# Altium integrated library Vishay Roederstein Electrolytic Solder Ring Capacitor.IntLib: 99 symbols (part 1 of 2)
Pins are listed as number, name and electrical type; pins without a type are passive.

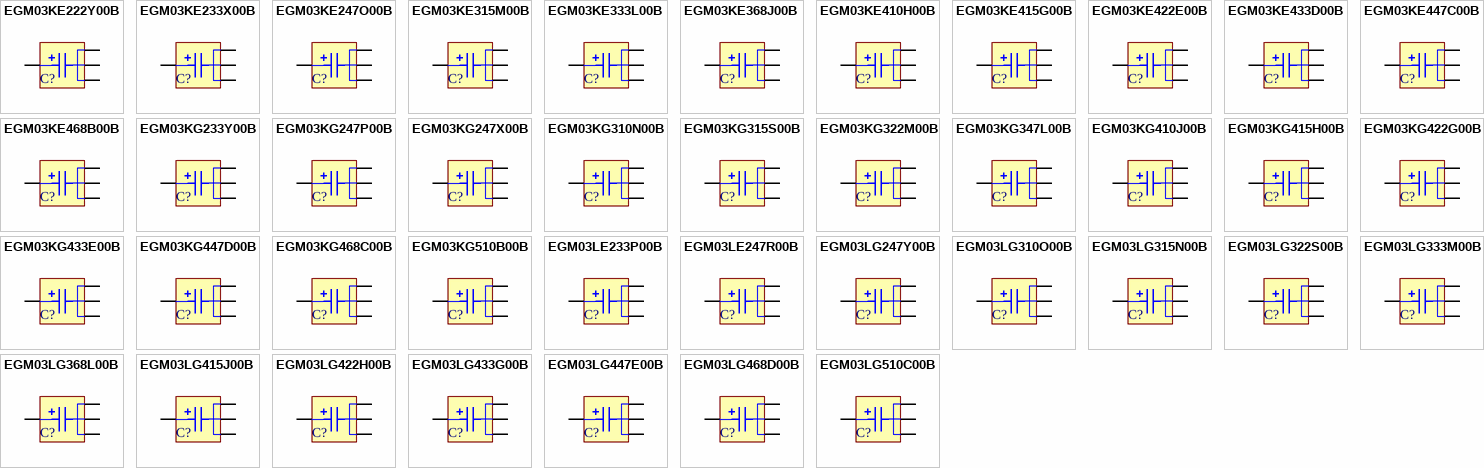
[diagram p0: symbols EGM03KE222Y00B to EGM03LG510C00B]

## EGM03KE222Y00B
designator C?
Aluminum Electrolytic Capacitor, Solder Ring Termination : 22uF, 500V; PCB_Layout: Complies with Manufacturer's Recommendation.; DrillSize: Nominal, Rounded To The Nearest 0.1mm; Published: 19-Mar-2004; DatasheetDocument: 8-Apr-2002; PackageReference: CAPPRM8.25-16X30-4; Publisher: Altium Limited; ComponentLink1Description: Manufacturer Link; ComponentLink1URL: http://www.vishay.com/; ComponentLink2Description: Datasheet; ComponentLink2URL: http://www.vishay.com/docs/25140/elebegm.pdf
footprint CAPPRM8.25-16X30-4 (Capacitor, Electrolytic, Radial, Solder Ring; Body 16 x 30 mm (Dia.xH typ); Pin Spacing 8.25 mm (typ))
simulation model CAP (Capacitor)
pins: 1, 2, 3, 4

## EGM03KE233X00B
designator C?
Aluminum Electrolytic Capacitor, Solder Ring Termination : 33uF, 400V; PCB_Layout: Complies with Manufacturer's Recommendation.; DrillSize: Nominal, Rounded To The Nearest 0.1mm; Published: 19-Mar-2004; DatasheetDocument: 8-Apr-2002; PackageReference: CAPPRM8.25-16X30-4; Publisher: Altium Limited; ComponentLink1Description: Manufacturer Link; ComponentLink1URL: http://www.vishay.com/; ComponentLink2Description: Datasheet; ComponentLink2URL: http://www.vishay.com/docs/25140/elebegm.pdf
footprint CAPPRM8.25-16X30-4 (Capacitor, Electrolytic, Radial, Solder Ring; Body 16 x 30 mm (Dia.xH typ); Pin Spacing 8.25 mm (typ))
simulation model CAP (Capacitor)
pins: 1, 2, 3, 4

## EGM03KE247O00B
designator C?
Aluminum Electrolytic Capacitor, Solder Ring Termination : 47uF, 350V; PCB_Layout: Complies with Manufacturer's Recommendation.; DrillSize: Nominal, Rounded To The Nearest 0.1mm; Published: 19-Mar-2004; DatasheetDocument: 8-Apr-2002; PackageReference: CAPPRM8.25-16X30-4; Publisher: Altium Limited; ComponentLink1Description: Manufacturer Link; ComponentLink1URL: http://www.vishay.com/; ComponentLink2Description: Datasheet; ComponentLink2URL: http://www.vishay.com/docs/25140/elebegm.pdf
footprint CAPPRM8.25-16X30-4 (Capacitor, Electrolytic, Radial, Solder Ring; Body 16 x 30 mm (Dia.xH typ); Pin Spacing 8.25 mm (typ))
simulation model CAP (Capacitor)
pins: 1, 2, 3, 4

## EGM03KE315M00B
designator C?
Aluminum Electrolytic Capacitor, Solder Ring Termination : 150uF, 160V; PCB_Layout: Complies with Manufacturer's Recommendation.; DrillSize: Nominal, Rounded To The Nearest 0.1mm; Published: 19-Mar-2004; DatasheetDocument: 8-Apr-2002; PackageReference: CAPPRM8.25-16X30-4; Publisher: Altium Limited; ComponentLink1Description: Manufacturer Link; ComponentLink1URL: http://www.vishay.com/; ComponentLink2Description: Datasheet; ComponentLink2URL: http://www.vishay.com/docs/25140/elebegm.pdf
footprint CAPPRM8.25-16X30-4 (Capacitor, Electrolytic, Radial, Solder Ring; Body 16 x 30 mm (Dia.xH typ); Pin Spacing 8.25 mm (typ))
simulation model CAP (Capacitor)
pins: 1, 2, 3, 4

## EGM03KE333L00B
designator C?
Aluminum Electrolytic Capacitor, Solder Ring Termination : 330uF, 100V; PCB_Layout: Complies with Manufacturer's Recommendation.; DrillSize: Nominal, Rounded To The Nearest 0.1mm; Published: 19-Mar-2004; DatasheetDocument: 8-Apr-2002; PackageReference: CAPPRM8.25-16X30-4; Publisher: Altium Limited; ComponentLink1Description: Manufacturer Link; ComponentLink1URL: http://www.vishay.com/; ComponentLink2Description: Datasheet; ComponentLink2URL: http://www.vishay.com/docs/25140/elebegm.pdf
footprint CAPPRM8.25-16X30-4 (Capacitor, Electrolytic, Radial, Solder Ring; Body 16 x 30 mm (Dia.xH typ); Pin Spacing 8.25 mm (typ))
simulation model CAP (Capacitor)
pins: 1, 2, 3, 4

## EGM03KE368J00B
designator C?
Aluminum Electrolytic Capacitor, Solder Ring Termination : 680uF, 63V; PCB_Layout: Complies with Manufacturer's Recommendation.; DrillSize: Nominal, Rounded To The Nearest 0.1mm; Published: 19-Mar-2004; DatasheetDocument: 8-Apr-2002; PackageReference: CAPPRM8.25-16X30-4; Publisher: Altium Limited; ComponentLink1Description: Manufacturer Link; ComponentLink1URL: http://www.vishay.com/; ComponentLink2Description: Datasheet; ComponentLink2URL: http://www.vishay.com/docs/25140/elebegm.pdf
footprint CAPPRM8.25-16X30-4 (Capacitor, Electrolytic, Radial, Solder Ring; Body 16 x 30 mm (Dia.xH typ); Pin Spacing 8.25 mm (typ))
simulation model CAP (Capacitor)
pins: 1, 2, 3, 4

## EGM03KE410H00B
designator C?
Aluminum Electrolytic Capacitor, Solder Ring Termination : 1000uF, 50V; PCB_Layout: Complies with Manufacturer's Recommendation.; DrillSize: Nominal, Rounded To The Nearest 0.1mm; Published: 19-Mar-2004; DatasheetDocument: 8-Apr-2002; PackageReference: CAPPRM8.25-16X30-4; Publisher: Altium Limited; ComponentLink1Description: Manufacturer Link; ComponentLink1URL: http://www.vishay.com/; ComponentLink2Description: Datasheet; ComponentLink2URL: http://www.vishay.com/docs/25140/elebegm.pdf
footprint CAPPRM8.25-16X30-4 (Capacitor, Electrolytic, Radial, Solder Ring; Body 16 x 30 mm (Dia.xH typ); Pin Spacing 8.25 mm (typ))
simulation model CAP (Capacitor)
pins: 1, 2, 3, 4

## EGM03KE415G00B
designator C?
Aluminum Electrolytic Capacitor, Solder Ring Termination : 1500uF, 40V; PCB_Layout: Complies with Manufacturer's Recommendation.; DrillSize: Nominal, Rounded To The Nearest 0.1mm; Published: 19-Mar-2004; DatasheetDocument: 8-Apr-2002; PackageReference: CAPPRM8.25-16X30-4; Publisher: Altium Limited; ComponentLink1Description: Manufacturer Link; ComponentLink1URL: http://www.vishay.com/; ComponentLink2Description: Datasheet; ComponentLink2URL: http://www.vishay.com/docs/25140/elebegm.pdf
footprint CAPPRM8.25-16X30-4 (Capacitor, Electrolytic, Radial, Solder Ring; Body 16 x 30 mm (Dia.xH typ); Pin Spacing 8.25 mm (typ))
simulation model CAP (Capacitor)
pins: 1, 2, 3, 4

## EGM03KE422E00B
designator C?
Aluminum Electrolytic Capacitor, Solder Ring Termination : 2200uF, 25V; PCB_Layout: Complies with Manufacturer's Recommendation.; DrillSize: Nominal, Rounded To The Nearest 0.1mm; Published: 19-Mar-2004; DatasheetDocument: 8-Apr-2002; PackageReference: CAPPRM8.25-16X30-4; Publisher: Altium Limited; ComponentLink1Description: Manufacturer Link; ComponentLink1URL: http://www.vishay.com/; ComponentLink2Description: Datasheet; ComponentLink2URL: http://www.vishay.com/docs/25140/elebegm.pdf
footprint CAPPRM8.25-16X30-4 (Capacitor, Electrolytic, Radial, Solder Ring; Body 16 x 30 mm (Dia.xH typ); Pin Spacing 8.25 mm (typ))
simulation model CAP (Capacitor)
pins: 1, 2, 3, 4

## EGM03KE433D00B
designator C?
Aluminum Electrolytic Capacitor, Solder Ring Termination : 3300uF, 16V; PCB_Layout: Complies with Manufacturer's Recommendation.; DrillSize: Nominal, Rounded To The Nearest 0.1mm; Published: 19-Mar-2004; DatasheetDocument: 8-Apr-2002; PackageReference: CAPPRM8.25-16X30-4; Publisher: Altium Limited; ComponentLink1Description: Manufacturer Link; ComponentLink1URL: http://www.vishay.com/; ComponentLink2Description: Datasheet; ComponentLink2URL: http://www.vishay.com/docs/25140/elebegm.pdf
footprint CAPPRM8.25-16X30-4 (Capacitor, Electrolytic, Radial, Solder Ring; Body 16 x 30 mm (Dia.xH typ); Pin Spacing 8.25 mm (typ))
simulation model CAP (Capacitor)
pins: 1, 2, 3, 4

## EGM03KE447C00B
designator C?
Aluminum Electrolytic Capacitor, Solder Ring Termination : 4700uF, 10V; PCB_Layout: Complies with Manufacturer's Recommendation.; DrillSize: Nominal, Rounded To The Nearest 0.1mm; Published: 19-Mar-2004; DatasheetDocument: 8-Apr-2002; PackageReference: CAPPRM8.25-16X30-4; Publisher: Altium Limited; ComponentLink1Description: Manufacturer Link; ComponentLink1URL: http://www.vishay.com/; ComponentLink2Description: Datasheet; ComponentLink2URL: http://www.vishay.com/docs/25140/elebegm.pdf
footprint CAPPRM8.25-16X30-4 (Capacitor, Electrolytic, Radial, Solder Ring; Body 16 x 30 mm (Dia.xH typ); Pin Spacing 8.25 mm (typ))
simulation model CAP (Capacitor)
pins: 1, 2, 3, 4

## EGM03KE468B00B
designator C?
Aluminum Electrolytic Capacitor, Solder Ring Termination : 6800uF, 6.3V; PCB_Layout: Complies with Manufacturer's Recommendation.; DrillSize: Nominal, Rounded To The Nearest 0.1mm; Published: 19-Mar-2004; DatasheetDocument: 8-Apr-2002; PackageReference: CAPPRM8.25-16X30-4; Publisher: Altium Limited; ComponentLink1Description: Manufacturer Link; ComponentLink1URL: http://www.vishay.com/; ComponentLink2Description: Datasheet; ComponentLink2URL: http://www.vishay.com/docs/25140/elebegm.pdf
footprint CAPPRM8.25-16X30-4 (Capacitor, Electrolytic, Radial, Solder Ring; Body 16 x 30 mm (Dia.xH typ); Pin Spacing 8.25 mm (typ))
simulation model CAP (Capacitor)
pins: 1, 2, 3, 4

## EGM03KG233Y00B
designator C?
Aluminum Electrolytic Capacitor, Solder Ring Termination : 33uF, 500V; PCB_Layout: Complies with Manufacturer's Recommendation.; DrillSize: Nominal, Rounded To The Nearest 0.1mm; Published: 19-Mar-2004; DatasheetDocument: 8-Apr-2002; PackageReference: CAPPRM8.25-16X40-4; Publisher: Altium Limited; ComponentLink1Description: Manufacturer Link; ComponentLink1URL: http://www.vishay.com/; ComponentLink2Description: Datasheet; ComponentLink2URL: http://www.vishay.com/docs/25140/elebegm.pdf
footprint CAPPRM8.25-16X40-4 (Capacitor, Electrolytic, Radial, Solder Ring; Body 16 x 40 mm (Dia.xH typ); Pin Spacing 8.25 mm (typ))
simulation model CAP (Capacitor)
pins: 1, 2, 3, 4

## EGM03KG247P00B
designator C?
Aluminum Electrolytic Capacitor, Solder Ring Termination : 47uF, 450V; PCB_Layout: Complies with Manufacturer's Recommendation.; DrillSize: Nominal, Rounded To The Nearest 0.1mm; Published: 19-Mar-2004; DatasheetDocument: 8-Apr-2002; PackageReference: CAPPRM8.25-16X40-4; Publisher: Altium Limited; ComponentLink1Description: Manufacturer Link; ComponentLink1URL: http://www.vishay.com/; ComponentLink2Description: Datasheet; ComponentLink2URL: http://www.vishay.com/docs/25140/elebegm.pdf
footprint CAPPRM8.25-16X40-4 (Capacitor, Electrolytic, Radial, Solder Ring; Body 16 x 40 mm (Dia.xH typ); Pin Spacing 8.25 mm (typ))
simulation model CAP (Capacitor)
pins: 1, 2, 3, 4

## EGM03KG247X00B
designator C?
Aluminum Electrolytic Capacitor, Solder Ring Termination : 47uF, 400V; PCB_Layout: Complies with Manufacturer's Recommendation.; DrillSize: Nominal, Rounded To The Nearest 0.1mm; Published: 19-Mar-2004; DatasheetDocument: 8-Apr-2002; PackageReference: CAPPRM8.25-16X40-4; Publisher: Altium Limited; ComponentLink1Description: Manufacturer Link; ComponentLink1URL: http://www.vishay.com/; ComponentLink2Description: Datasheet; ComponentLink2URL: http://www.vishay.com/docs/25140/elebegm.pdf
footprint CAPPRM8.25-16X40-4 (Capacitor, Electrolytic, Radial, Solder Ring; Body 16 x 40 mm (Dia.xH typ); Pin Spacing 8.25 mm (typ))
simulation model CAP (Capacitor)
pins: 1, 2, 3, 4

## EGM03KG310N00B
designator C?
Aluminum Electrolytic Capacitor, Solder Ring Termination : 100uF, 250V; PCB_Layout: Complies with Manufacturer's Recommendation.; DrillSize: Nominal, Rounded To The Nearest 0.1mm; Published: 19-Mar-2004; DatasheetDocument: 8-Apr-2002; PackageReference: CAPPRM8.25-16X40-4; Publisher: Altium Limited; ComponentLink1Description: Manufacturer Link; ComponentLink1URL: http://www.vishay.com/; ComponentLink2Description: Datasheet; ComponentLink2URL: http://www.vishay.com/docs/25140/elebegm.pdf
footprint CAPPRM8.25-16X40-4 (Capacitor, Electrolytic, Radial, Solder Ring; Body 16 x 40 mm (Dia.xH typ); Pin Spacing 8.25 mm (typ))
simulation model CAP (Capacitor)
pins: 1, 2, 3, 4

## EGM03KG315S00B
designator C?
Aluminum Electrolytic Capacitor, Solder Ring Termination : 150uF, 200V; PCB_Layout: Complies with Manufacturer's Recommendation.; DrillSize: Nominal, Rounded To The Nearest 0.1mm; Published: 19-Mar-2004; DatasheetDocument: 8-Apr-2002; PackageReference: CAPPRM8.25-16X40-4; Publisher: Altium Limited; ComponentLink1Description: Manufacturer Link; ComponentLink1URL: http://www.vishay.com/; ComponentLink2Description: Datasheet; ComponentLink2URL: http://www.vishay.com/docs/25140/elebegm.pdf
footprint CAPPRM8.25-16X40-4 (Capacitor, Electrolytic, Radial, Solder Ring; Body 16 x 40 mm (Dia.xH typ); Pin Spacing 8.25 mm (typ))
simulation model CAP (Capacitor)
pins: 1, 2, 3, 4

## EGM03KG322M00B
designator C?
Aluminum Electrolytic Capacitor, Solder Ring Termination : 220uF, 160V; PCB_Layout: Complies with Manufacturer's Recommendation.; DrillSize: Nominal, Rounded To The Nearest 0.1mm; Published: 19-Mar-2004; DatasheetDocument: 8-Apr-2002; PackageReference: CAPPRM8.25-16X40-4; Publisher: Altium Limited; ComponentLink1Description: Manufacturer Link; ComponentLink1URL: http://www.vishay.com/; ComponentLink2Description: Datasheet; ComponentLink2URL: http://www.vishay.com/docs/25140/elebegm.pdf
footprint CAPPRM8.25-16X40-4 (Capacitor, Electrolytic, Radial, Solder Ring; Body 16 x 40 mm (Dia.xH typ); Pin Spacing 8.25 mm (typ))
simulation model CAP (Capacitor)
pins: 1, 2, 3, 4

## EGM03KG347L00B
designator C?
Aluminum Electrolytic Capacitor, Solder Ring Termination : 470uF, 100V; PCB_Layout: Complies with Manufacturer's Recommendation.; DrillSize: Nominal, Rounded To The Nearest 0.1mm; Published: 19-Mar-2004; DatasheetDocument: 8-Apr-2002; PackageReference: CAPPRM8.25-16X40-4; Publisher: Altium Limited; ComponentLink1Description: Manufacturer Link; ComponentLink1URL: http://www.vishay.com/; ComponentLink2Description: Datasheet; ComponentLink2URL: http://www.vishay.com/docs/25140/elebegm.pdf
footprint CAPPRM8.25-16X40-4 (Capacitor, Electrolytic, Radial, Solder Ring; Body 16 x 40 mm (Dia.xH typ); Pin Spacing 8.25 mm (typ))
simulation model CAP (Capacitor)
pins: 1, 2, 3, 4

## EGM03KG410J00B
designator C?
Aluminum Electrolytic Capacitor, Solder Ring Termination : 1000uF, 63V; PCB_Layout: Complies with Manufacturer's Recommendation.; DrillSize: Nominal, Rounded To The Nearest 0.1mm; Published: 19-Mar-2004; DatasheetDocument: 8-Apr-2002; PackageReference: CAPPRM8.25-16X40-4; Publisher: Altium Limited; ComponentLink1Description: Manufacturer Link; ComponentLink1URL: http://www.vishay.com/; ComponentLink2Description: Datasheet; ComponentLink2URL: http://www.vishay.com/docs/25140/elebegm.pdf
footprint CAPPRM8.25-16X40-4 (Capacitor, Electrolytic, Radial, Solder Ring; Body 16 x 40 mm (Dia.xH typ); Pin Spacing 8.25 mm (typ))
simulation model CAP (Capacitor)
pins: 1, 2, 3, 4

## EGM03KG415H00B
designator C?
Aluminum Electrolytic Capacitor, Solder Ring Termination : 1500uF, 50V; PCB_Layout: Complies with Manufacturer's Recommendation.; DrillSize: Nominal, Rounded To The Nearest 0.1mm; Published: 19-Mar-2004; DatasheetDocument: 8-Apr-2002; PackageReference: CAPPRM8.25-16X40-4; Publisher: Altium Limited; ComponentLink1Description: Manufacturer Link; ComponentLink1URL: http://www.vishay.com/; ComponentLink2Description: Datasheet; ComponentLink2URL: http://www.vishay.com/docs/25140/elebegm.pdf
footprint CAPPRM8.25-16X40-4 (Capacitor, Electrolytic, Radial, Solder Ring; Body 16 x 40 mm (Dia.xH typ); Pin Spacing 8.25 mm (typ))
simulation model CAP (Capacitor)
pins: 1, 2, 3, 4

## EGM03KG422G00B
designator C?
Aluminum Electrolytic Capacitor, Solder Ring Termination : 2200uF, 40V; PCB_Layout: Complies with Manufacturer's Recommendation.; DrillSize: Nominal, Rounded To The Nearest 0.1mm; Published: 19-Mar-2004; DatasheetDocument: 8-Apr-2002; PackageReference: CAPPRM8.25-16X40-4; Publisher: Altium Limited; ComponentLink1Description: Manufacturer Link; ComponentLink1URL: http://www.vishay.com/; ComponentLink2Description: Datasheet; ComponentLink2URL: http://www.vishay.com/docs/25140/elebegm.pdf
footprint CAPPRM8.25-16X40-4 (Capacitor, Electrolytic, Radial, Solder Ring; Body 16 x 40 mm (Dia.xH typ); Pin Spacing 8.25 mm (typ))
simulation model CAP (Capacitor)
pins: 1, 2, 3, 4

## EGM03KG433E00B
designator C?
Aluminum Electrolytic Capacitor, Solder Ring Termination : 3300uF, 25V; PCB_Layout: Complies with Manufacturer's Recommendation.; DrillSize: Nominal, Rounded To The Nearest 0.1mm; Published: 19-Mar-2004; DatasheetDocument: 8-Apr-2002; PackageReference: CAPPRM8.25-16X40-4; Publisher: Altium Limited; ComponentLink1Description: Manufacturer Link; ComponentLink1URL: http://www.vishay.com/; ComponentLink2Description: Datasheet; ComponentLink2URL: http://www.vishay.com/docs/25140/elebegm.pdf
footprint CAPPRM8.25-16X40-4 (Capacitor, Electrolytic, Radial, Solder Ring; Body 16 x 40 mm (Dia.xH typ); Pin Spacing 8.25 mm (typ))
simulation model CAP (Capacitor)
pins: 1, 2, 3, 4

## EGM03KG447D00B
designator C?
Aluminum Electrolytic Capacitor, Solder Ring Termination : 4700uF, 16V; PCB_Layout: Complies with Manufacturer's Recommendation.; DrillSize: Nominal, Rounded To The Nearest 0.1mm; Published: 19-Mar-2004; DatasheetDocument: 8-Apr-2002; PackageReference: CAPPRM8.25-16X40-4; Publisher: Altium Limited; ComponentLink1Description: Manufacturer Link; ComponentLink1URL: http://www.vishay.com/; ComponentLink2Description: Datasheet; ComponentLink2URL: http://www.vishay.com/docs/25140/elebegm.pdf
footprint CAPPRM8.25-16X40-4 (Capacitor, Electrolytic, Radial, Solder Ring; Body 16 x 40 mm (Dia.xH typ); Pin Spacing 8.25 mm (typ))
simulation model CAP (Capacitor)
pins: 1, 2, 3, 4

## EGM03KG468C00B
designator C?
Aluminum Electrolytic Capacitor, Solder Ring Termination : 6800uF, 10V; PCB_Layout: Complies with Manufacturer's Recommendation.; DrillSize: Nominal, Rounded To The Nearest 0.1mm; Published: 19-Mar-2004; DatasheetDocument: 8-Apr-2002; PackageReference: CAPPRM8.25-16X40-4; Publisher: Altium Limited; ComponentLink1Description: Manufacturer Link; ComponentLink1URL: http://www.vishay.com/; ComponentLink2Description: Datasheet; ComponentLink2URL: http://www.vishay.com/docs/25140/elebegm.pdf
footprint CAPPRM8.25-16X40-4 (Capacitor, Electrolytic, Radial, Solder Ring; Body 16 x 40 mm (Dia.xH typ); Pin Spacing 8.25 mm (typ))
simulation model CAP (Capacitor)
pins: 1, 2, 3, 4

## EGM03KG510B00B
designator C?
Aluminum Electrolytic Capacitor, Solder Ring Termination : 10000uF, 6.3V; PCB_Layout: Complies with Manufacturer's Recommendation.; DrillSize: Nominal, Rounded To The Nearest 0.1mm; Published: 19-Mar-2004; DatasheetDocument: 8-Apr-2002; PackageReference: CAPPRM8.25-16X40-4; Publisher: Altium Limited; ComponentLink1Description: Manufacturer Link; ComponentLink1URL: http://www.vishay.com/; ComponentLink2Description: Datasheet; ComponentLink2URL: http://www.vishay.com/docs/25140/elebegm.pdf
footprint CAPPRM8.25-16X40-4 (Capacitor, Electrolytic, Radial, Solder Ring; Body 16 x 40 mm (Dia.xH typ); Pin Spacing 8.25 mm (typ))
simulation model CAP (Capacitor)
pins: 1, 2, 3, 4

## EGM03LE233P00B
designator C?
Aluminum Electrolytic Capacitor, Solder Ring Termination : 33uF, 450V; PCB_Layout: Complies with Manufacturer's Recommendation.; DrillSize: Nominal, Rounded To The Nearest 0.1mm; Published: 19-Mar-2004; DatasheetDocument: 8-Apr-2002; PackageReference: CAPPRM9.25-18X30-4; Publisher: Altium Limited; ComponentLink1Description: Manufacturer Link; ComponentLink1URL: http://www.vishay.com/; ComponentLink2Description: Datasheet; ComponentLink2URL: http://www.vishay.com/docs/25140/elebegm.pdf
footprint CAPPRM9.25-18X30-4 (Capacitor, Electrolytic, Radial, Solder Ring; Body 18 x 30 mm (Dia.xH typ); Pin Spacing 9.25 mm (typ))
simulation model CAP (Capacitor)
pins: 1, 2, 3, 4

## EGM03LE247R00B
designator C?
Aluminum Electrolytic Capacitor, Solder Ring Termination : 47uF, 385V; PCB_Layout: Complies with Manufacturer's Recommendation.; DrillSize: Nominal, Rounded To The Nearest 0.1mm; Published: 19-Mar-2004; DatasheetDocument: 8-Apr-2002; PackageReference: CAPPRM9.25-18X30-4; Publisher: Altium Limited; ComponentLink1Description: Manufacturer Link; ComponentLink1URL: http://www.vishay.com/; ComponentLink2Description: Datasheet; ComponentLink2URL: http://www.vishay.com/docs/25140/elebegm.pdf
footprint CAPPRM9.25-18X30-4 (Capacitor, Electrolytic, Radial, Solder Ring; Body 18 x 30 mm (Dia.xH typ); Pin Spacing 9.25 mm (typ))
simulation model CAP (Capacitor)
pins: 1, 2, 3, 4

## EGM03LG247Y00B
designator C?
Aluminum Electrolytic Capacitor, Solder Ring Termination : 47uF, 500V; PCB_Layout: Complies with Manufacturer's Recommendation.; DrillSize: Nominal, Rounded To The Nearest 0.1mm; Published: 19-Mar-2004; DatasheetDocument: 8-Apr-2002; PackageReference: CAPPRM9.25-18X40-4; Publisher: Altium Limited; ComponentLink1Description: Manufacturer Link; ComponentLink1URL: http://www.vishay.com/; ComponentLink2Description: Datasheet; ComponentLink2URL: http://www.vishay.com/docs/25140/elebegm.pdf
footprint CAPPRM9.25-18X40-4 (Capacitor, Electrolytic, Radial, Solder Ring; Body 18 x 40 mm (Dia.xH typ); Pin Spacing 9.25 mm (typ))
simulation model CAP (Capacitor)
pins: 1, 2, 3, 4

## EGM03LG310O00B
designator C?
Aluminum Electrolytic Capacitor, Solder Ring Termination : 100uF, 350V; PCB_Layout: Complies with Manufacturer's Recommendation.; DrillSize: Nominal, Rounded To The Nearest 0.1mm; Published: 19-Mar-2004; DatasheetDocument: 8-Apr-2002; PackageReference: CAPPRM9.25-18X40-4; Publisher: Altium Limited; ComponentLink1Description: Manufacturer Link; ComponentLink1URL: http://www.vishay.com/; ComponentLink2Description: Datasheet; ComponentLink2URL: http://www.vishay.com/docs/25140/elebegm.pdf
footprint CAPPRM9.25-18X40-4 (Capacitor, Electrolytic, Radial, Solder Ring; Body 18 x 40 mm (Dia.xH typ); Pin Spacing 9.25 mm (typ))
simulation model CAP (Capacitor)
pins: 1, 2, 3, 4

## EGM03LG315N00B
designator C?
Aluminum Electrolytic Capacitor, Solder Ring Termination : 150uF, 250V; PCB_Layout: Complies with Manufacturer's Recommendation.; DrillSize: Nominal, Rounded To The Nearest 0.1mm; Published: 19-Mar-2004; DatasheetDocument: 8-Apr-2002; PackageReference: CAPPRM9.25-18X40-4; Publisher: Altium Limited; ComponentLink1Description: Manufacturer Link; ComponentLink1URL: http://www.vishay.com/; ComponentLink2Description: Datasheet; ComponentLink2URL: http://www.vishay.com/docs/25140/elebegm.pdf
footprint CAPPRM9.25-18X40-4 (Capacitor, Electrolytic, Radial, Solder Ring; Body 18 x 40 mm (Dia.xH typ); Pin Spacing 9.25 mm (typ))
simulation model CAP (Capacitor)
pins: 1, 2, 3, 4

## EGM03LG322S00B
designator C?
Aluminum Electrolytic Capacitor, Solder Ring Termination : 220uF, 200V; PCB_Layout: Complies with Manufacturer's Recommendation.; DrillSize: Nominal, Rounded To The Nearest 0.1mm; Published: 19-Mar-2004; DatasheetDocument: 8-Apr-2002; PackageReference: CAPPRM9.25-18X40-4; Publisher: Altium Limited; ComponentLink1Description: Manufacturer Link; ComponentLink1URL: http://www.vishay.com/; ComponentLink2Description: Datasheet; ComponentLink2URL: http://www.vishay.com/docs/25140/elebegm.pdf
footprint CAPPRM9.25-18X40-4 (Capacitor, Electrolytic, Radial, Solder Ring; Body 18 x 40 mm (Dia.xH typ); Pin Spacing 9.25 mm (typ))
simulation model CAP (Capacitor)
pins: 1, 2, 3, 4

## EGM03LG333M00B
designator C?
Aluminum Electrolytic Capacitor, Solder Ring Termination : 330uF, 160V; PCB_Layout: Complies with Manufacturer's Recommendation.; DrillSize: Nominal, Rounded To The Nearest 0.1mm; Published: 19-Mar-2004; DatasheetDocument: 8-Apr-2002; PackageReference: CAPPRM9.25-18X40-4; Publisher: Altium Limited; ComponentLink1Description: Manufacturer Link; ComponentLink1URL: http://www.vishay.com/; ComponentLink2Description: Datasheet; ComponentLink2URL: http://www.vishay.com/docs/25140/elebegm.pdf
footprint CAPPRM9.25-18X40-4 (Capacitor, Electrolytic, Radial, Solder Ring; Body 18 x 40 mm (Dia.xH typ); Pin Spacing 9.25 mm (typ))
simulation model CAP (Capacitor)
pins: 1, 2, 3, 4

## EGM03LG368L00B
designator C?
Aluminum Electrolytic Capacitor, Solder Ring Termination : 680uF, 100V; PCB_Layout: Complies with Manufacturer's Recommendation.; DrillSize: Nominal, Rounded To The Nearest 0.1mm; Published: 19-Mar-2004; DatasheetDocument: 8-Apr-2002; PackageReference: CAPPRM9.25-18X40-4; Publisher: Altium Limited; ComponentLink1Description: Manufacturer Link; ComponentLink1URL: http://www.vishay.com/; ComponentLink2Description: Datasheet; ComponentLink2URL: http://www.vishay.com/docs/25140/elebegm.pdf
footprint CAPPRM9.25-18X40-4 (Capacitor, Electrolytic, Radial, Solder Ring; Body 18 x 40 mm (Dia.xH typ); Pin Spacing 9.25 mm (typ))
simulation model CAP (Capacitor)
pins: 1, 2, 3, 4

## EGM03LG415J00B
designator C?
Aluminum Electrolytic Capacitor, Solder Ring Termination : 1500uF, 63V; PCB_Layout: Complies with Manufacturer's Recommendation.; DrillSize: Nominal, Rounded To The Nearest 0.1mm; Published: 19-Mar-2004; DatasheetDocument: 8-Apr-2002; PackageReference: CAPPRM9.25-18X40-4; Publisher: Altium Limited; ComponentLink1Description: Manufacturer Link; ComponentLink1URL: http://www.vishay.com/; ComponentLink2Description: Datasheet; ComponentLink2URL: http://www.vishay.com/docs/25140/elebegm.pdf
footprint CAPPRM9.25-18X40-4 (Capacitor, Electrolytic, Radial, Solder Ring; Body 18 x 40 mm (Dia.xH typ); Pin Spacing 9.25 mm (typ))
simulation model CAP (Capacitor)
pins: 1, 2, 3, 4

## EGM03LG422H00B
designator C?
Aluminum Electrolytic Capacitor, Solder Ring Termination : 2200uF, 50V; PCB_Layout: Complies with Manufacturer's Recommendation.; DrillSize: Nominal, Rounded To The Nearest 0.1mm; Published: 19-Mar-2004; DatasheetDocument: 8-Apr-2002; PackageReference: CAPPRM9.25-18X40-4; Publisher: Altium Limited; ComponentLink1Description: Manufacturer Link; ComponentLink1URL: http://www.vishay.com/; ComponentLink2Description: Datasheet; ComponentLink2URL: http://www.vishay.com/docs/25140/elebegm.pdf
footprint CAPPRM9.25-18X40-4 (Capacitor, Electrolytic, Radial, Solder Ring; Body 18 x 40 mm (Dia.xH typ); Pin Spacing 9.25 mm (typ))
simulation model CAP (Capacitor)
pins: 1, 2, 3, 4

## EGM03LG433G00B
designator C?
Aluminum Electrolytic Capacitor, Solder Ring Termination : 3300uF, 40V; PCB_Layout: Complies with Manufacturer's Recommendation.; DrillSize: Nominal, Rounded To The Nearest 0.1mm; Published: 19-Mar-2004; DatasheetDocument: 8-Apr-2002; PackageReference: CAPPRM9.25-18X40-4; Publisher: Altium Limited; ComponentLink1Description: Manufacturer Link; ComponentLink1URL: http://www.vishay.com/; ComponentLink2Description: Datasheet; ComponentLink2URL: http://www.vishay.com/docs/25140/elebegm.pdf
footprint CAPPRM9.25-18X40-4 (Capacitor, Electrolytic, Radial, Solder Ring; Body 18 x 40 mm (Dia.xH typ); Pin Spacing 9.25 mm (typ))
simulation model CAP (Capacitor)
pins: 1, 2, 3, 4

## EGM03LG447E00B
designator C?
Aluminum Electrolytic Capacitor, Solder Ring Termination : 4700uF, 25V; PCB_Layout: Complies with Manufacturer's Recommendation.; DrillSize: Nominal, Rounded To The Nearest 0.1mm; Published: 19-Mar-2004; DatasheetDocument: 8-Apr-2002; PackageReference: CAPPRM9.25-18X40-4; Publisher: Altium Limited; ComponentLink1Description: Manufacturer Link; ComponentLink1URL: http://www.vishay.com/; ComponentLink2Description: Datasheet; ComponentLink2URL: http://www.vishay.com/docs/25140/elebegm.pdf
footprint CAPPRM9.25-18X40-4 (Capacitor, Electrolytic, Radial, Solder Ring; Body 18 x 40 mm (Dia.xH typ); Pin Spacing 9.25 mm (typ))
simulation model CAP (Capacitor)
pins: 1, 2, 3, 4

## EGM03LG468D00B
designator C?
Aluminum Electrolytic Capacitor, Solder Ring Termination : 6800uF, 16V; PCB_Layout: Complies with Manufacturer's Recommendation.; DrillSize: Nominal, Rounded To The Nearest 0.1mm; Published: 19-Mar-2004; DatasheetDocument: 8-Apr-2002; PackageReference: CAPPRM9.25-18X40-4; Publisher: Altium Limited; ComponentLink1Description: Manufacturer Link; ComponentLink1URL: http://www.vishay.com/; ComponentLink2Description: Datasheet; ComponentLink2URL: http://www.vishay.com/docs/25140/elebegm.pdf
footprint CAPPRM9.25-18X40-4 (Capacitor, Electrolytic, Radial, Solder Ring; Body 18 x 40 mm (Dia.xH typ); Pin Spacing 9.25 mm (typ))
simulation model CAP (Capacitor)
pins: 1, 2, 3, 4

## EGM03LG510C00B
designator C?
Aluminum Electrolytic Capacitor, Solder Ring Termination : 10000uF, 10V; PCB_Layout: Complies with Manufacturer's Recommendation.; DrillSize: Nominal, Rounded To The Nearest 0.1mm; Published: 19-Mar-2004; DatasheetDocument: 8-Apr-2002; PackageReference: CAPPRM9.25-18X40-4; Publisher: Altium Limited; ComponentLink1Description: Manufacturer Link; ComponentLink1URL: http://www.vishay.com/; ComponentLink2Description: Datasheet; ComponentLink2URL: http://www.vishay.com/docs/25140/elebegm.pdf
footprint CAPPRM9.25-18X40-4 (Capacitor, Electrolytic, Radial, Solder Ring; Body 18 x 40 mm (Dia.xH typ); Pin Spacing 9.25 mm (typ))
simulation model CAP (Capacitor)
pins: 1, 2, 3, 4

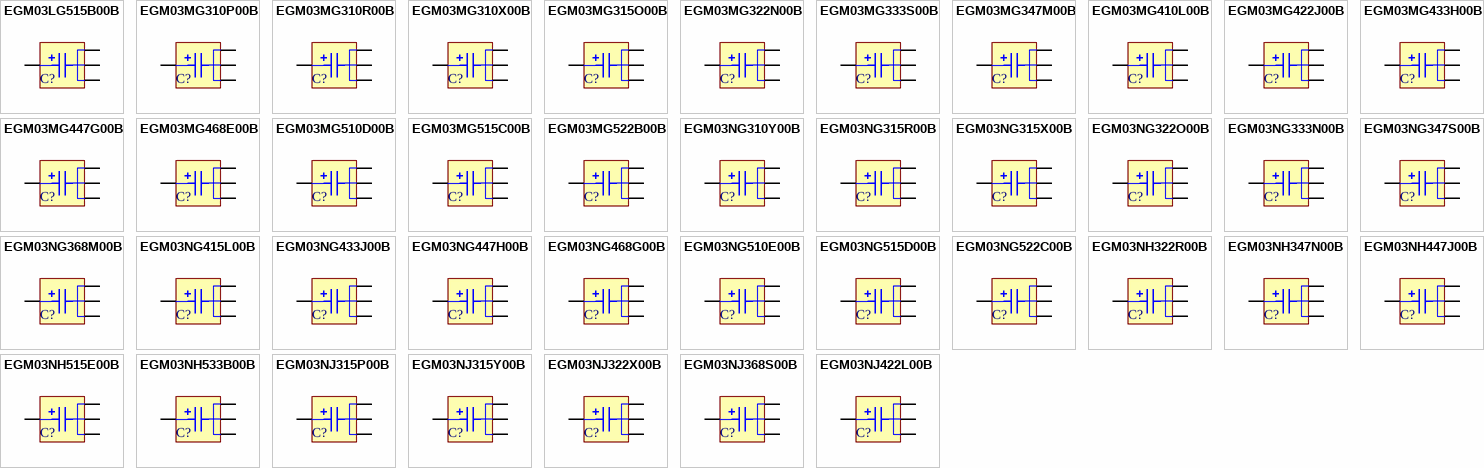
[diagram p1: symbols EGM03LG515B00B to EGM03NJ422L00B]

## EGM03LG515B00B
designator C?
Aluminum Electrolytic Capacitor, Solder Ring Termination : 15000uF, 6.3V; PCB_Layout: Complies with Manufacturer's Recommendation.; DrillSize: Nominal, Rounded To The Nearest 0.1mm; Published: 19-Mar-2004; DatasheetDocument: 8-Apr-2002; PackageReference: CAPPRM9.25-18X40-4; Publisher: Altium Limited; ComponentLink1Description: Manufacturer Link; ComponentLink1URL: http://www.vishay.com/; ComponentLink2Description: Datasheet; ComponentLink2URL: http://www.vishay.com/docs/25140/elebegm.pdf
footprint CAPPRM9.25-18X40-4 (Capacitor, Electrolytic, Radial, Solder Ring; Body 18 x 40 mm (Dia.xH typ); Pin Spacing 9.25 mm (typ))
simulation model CAP (Capacitor)
pins: 1, 2, 3, 4

## EGM03MG310P00B
designator C?
Aluminum Electrolytic Capacitor, Solder Ring Termination : 100uF, 450V; PCB_Layout: Complies with Manufacturer's Recommendation.; DrillSize: Nominal, Rounded To The Nearest 0.1mm; Published: 19-Mar-2004; DatasheetDocument: 8-Apr-2002; PackageReference: CAPPRM10.75-21X40-4; Publisher: Altium Limited; ComponentLink1Description: Manufacturer Link; ComponentLink1URL: http://www.vishay.com/; ComponentLink2Description: Datasheet; ComponentLink2URL: http://www.vishay.com/docs/25140/elebegm.pdf
footprint CAPPRM10.75-21X40-4 (Capacitor, Electrolytic, Radial, Solder Ring; Body 21 x 40 mm (Dia.xH typ); Pin Spacing 10.75 mm (typ))
simulation model CAP (Capacitor)
pins: 1, 2, 3, 4

## EGM03MG310R00B
designator C?
Aluminum Electrolytic Capacitor, Solder Ring Termination : 100uF, 385V; PCB_Layout: Complies with Manufacturer's Recommendation.; DrillSize: Nominal, Rounded To The Nearest 0.1mm; Published: 19-Mar-2004; DatasheetDocument: 8-Apr-2002; PackageReference: CAPPRM10.75-21X40-4; Publisher: Altium Limited; ComponentLink1Description: Manufacturer Link; ComponentLink1URL: http://www.vishay.com/; ComponentLink2Description: Datasheet; ComponentLink2URL: http://www.vishay.com/docs/25140/elebegm.pdf
footprint CAPPRM10.75-21X40-4 (Capacitor, Electrolytic, Radial, Solder Ring; Body 21 x 40 mm (Dia.xH typ); Pin Spacing 10.75 mm (typ))
simulation model CAP (Capacitor)
pins: 1, 2, 3, 4

## EGM03MG310X00B
designator C?
Aluminum Electrolytic Capacitor, Solder Ring Termination : 100uF, 400V; PCB_Layout: Complies with Manufacturer's Recommendation.; DrillSize: Nominal, Rounded To The Nearest 0.1mm; Published: 19-Mar-2004; DatasheetDocument: 8-Apr-2002; PackageReference: CAPPRM10.75-21X40-4; Publisher: Altium Limited; ComponentLink1Description: Manufacturer Link; ComponentLink1URL: http://www.vishay.com/; ComponentLink2Description: Datasheet; ComponentLink2URL: http://www.vishay.com/docs/25140/elebegm.pdf
footprint CAPPRM10.75-21X40-4 (Capacitor, Electrolytic, Radial, Solder Ring; Body 21 x 40 mm (Dia.xH typ); Pin Spacing 10.75 mm (typ))
simulation model CAP (Capacitor)
pins: 1, 2, 3, 4

## EGM03MG315O00B
designator C?
Aluminum Electrolytic Capacitor, Solder Ring Termination : 150uF, 350V; PCB_Layout: Complies with Manufacturer's Recommendation.; DrillSize: Nominal, Rounded To The Nearest 0.1mm; Published: 19-Mar-2004; DatasheetDocument: 8-Apr-2002; PackageReference: CAPPRM10.75-21X40-4; Publisher: Altium Limited; ComponentLink1Description: Manufacturer Link; ComponentLink1URL: http://www.vishay.com/; ComponentLink2Description: Datasheet; ComponentLink2URL: http://www.vishay.com/docs/25140/elebegm.pdf
footprint CAPPRM10.75-21X40-4 (Capacitor, Electrolytic, Radial, Solder Ring; Body 21 x 40 mm (Dia.xH typ); Pin Spacing 10.75 mm (typ))
simulation model CAP (Capacitor)
pins: 1, 2, 3, 4

## EGM03MG322N00B
designator C?
Aluminum Electrolytic Capacitor, Solder Ring Termination : 220uF, 250V; PCB_Layout: Complies with Manufacturer's Recommendation.; DrillSize: Nominal, Rounded To The Nearest 0.1mm; Published: 19-Mar-2004; DatasheetDocument: 8-Apr-2002; PackageReference: CAPPRM10.75-21X40-4; Publisher: Altium Limited; ComponentLink1Description: Manufacturer Link; ComponentLink1URL: http://www.vishay.com/; ComponentLink2Description: Datasheet; ComponentLink2URL: http://www.vishay.com/docs/25140/elebegm.pdf
footprint CAPPRM10.75-21X40-4 (Capacitor, Electrolytic, Radial, Solder Ring; Body 21 x 40 mm (Dia.xH typ); Pin Spacing 10.75 mm (typ))
simulation model CAP (Capacitor)
pins: 1, 2, 3, 4

## EGM03MG333S00B
designator C?
Aluminum Electrolytic Capacitor, Solder Ring Termination : 330uF, 200V; PCB_Layout: Complies with Manufacturer's Recommendation.; DrillSize: Nominal, Rounded To The Nearest 0.1mm; Published: 19-Mar-2004; DatasheetDocument: 8-Apr-2002; PackageReference: CAPPRM10.75-21X40-4; Publisher: Altium Limited; ComponentLink1Description: Manufacturer Link; ComponentLink1URL: http://www.vishay.com/; ComponentLink2Description: Datasheet; ComponentLink2URL: http://www.vishay.com/docs/25140/elebegm.pdf
footprint CAPPRM10.75-21X40-4 (Capacitor, Electrolytic, Radial, Solder Ring; Body 21 x 40 mm (Dia.xH typ); Pin Spacing 10.75 mm (typ))
simulation model CAP (Capacitor)
pins: 1, 2, 3, 4

## EGM03MG347M00B
designator C?
Aluminum Electrolytic Capacitor, Solder Ring Termination : 470uF, 160V; PCB_Layout: Complies with Manufacturer's Recommendation.; DrillSize: Nominal, Rounded To The Nearest 0.1mm; Published: 19-Mar-2004; DatasheetDocument: 8-Apr-2002; PackageReference: CAPPRM10.75-21X40-4; Publisher: Altium Limited; ComponentLink1Description: Manufacturer Link; ComponentLink1URL: http://www.vishay.com/; ComponentLink2Description: Datasheet; ComponentLink2URL: http://www.vishay.com/docs/25140/elebegm.pdf
footprint CAPPRM10.75-21X40-4 (Capacitor, Electrolytic, Radial, Solder Ring; Body 21 x 40 mm (Dia.xH typ); Pin Spacing 10.75 mm (typ))
simulation model CAP (Capacitor)
pins: 1, 2, 3, 4

## EGM03MG410L00B
designator C?
Aluminum Electrolytic Capacitor, Solder Ring Termination : 1000uF, 100V; PCB_Layout: Complies with Manufacturer's Recommendation.; DrillSize: Nominal, Rounded To The Nearest 0.1mm; Published: 19-Mar-2004; DatasheetDocument: 8-Apr-2002; PackageReference: CAPPRM10.75-21X40-4; Publisher: Altium Limited; ComponentLink1Description: Manufacturer Link; ComponentLink1URL: http://www.vishay.com/; ComponentLink2Description: Datasheet; ComponentLink2URL: http://www.vishay.com/docs/25140/elebegm.pdf
footprint CAPPRM10.75-21X40-4 (Capacitor, Electrolytic, Radial, Solder Ring; Body 21 x 40 mm (Dia.xH typ); Pin Spacing 10.75 mm (typ))
simulation model CAP (Capacitor)
pins: 1, 2, 3, 4

## EGM03MG422J00B
designator C?
Aluminum Electrolytic Capacitor, Solder Ring Termination : 2200uF, 63V; PCB_Layout: Complies with Manufacturer's Recommendation.; DrillSize: Nominal, Rounded To The Nearest 0.1mm; Published: 19-Mar-2004; DatasheetDocument: 8-Apr-2002; PackageReference: CAPPRM10.75-21X40-4; Publisher: Altium Limited; ComponentLink1Description: Manufacturer Link; ComponentLink1URL: http://www.vishay.com/; ComponentLink2Description: Datasheet; ComponentLink2URL: http://www.vishay.com/docs/25140/elebegm.pdf
footprint CAPPRM10.75-21X40-4 (Capacitor, Electrolytic, Radial, Solder Ring; Body 21 x 40 mm (Dia.xH typ); Pin Spacing 10.75 mm (typ))
simulation model CAP (Capacitor)
pins: 1, 2, 3, 4

## EGM03MG433H00B
designator C?
Aluminum Electrolytic Capacitor, Solder Ring Termination : 3300uF, 50V; PCB_Layout: Complies with Manufacturer's Recommendation.; DrillSize: Nominal, Rounded To The Nearest 0.1mm; Published: 19-Mar-2004; DatasheetDocument: 8-Apr-2002; PackageReference: CAPPRM10.75-21X40-4; Publisher: Altium Limited; ComponentLink1Description: Manufacturer Link; ComponentLink1URL: http://www.vishay.com/; ComponentLink2Description: Datasheet; ComponentLink2URL: http://www.vishay.com/docs/25140/elebegm.pdf
footprint CAPPRM10.75-21X40-4 (Capacitor, Electrolytic, Radial, Solder Ring; Body 21 x 40 mm (Dia.xH typ); Pin Spacing 10.75 mm (typ))
simulation model CAP (Capacitor)
pins: 1, 2, 3, 4

## EGM03MG447G00B
designator C?
Aluminum Electrolytic Capacitor, Solder Ring Termination : 4700uF, 40V; PCB_Layout: Complies with Manufacturer's Recommendation.; DrillSize: Nominal, Rounded To The Nearest 0.1mm; Published: 19-Mar-2004; DatasheetDocument: 8-Apr-2002; PackageReference: CAPPRM10.75-21X40-4; Publisher: Altium Limited; ComponentLink1Description: Manufacturer Link; ComponentLink1URL: http://www.vishay.com/; ComponentLink2Description: Datasheet; ComponentLink2URL: http://www.vishay.com/docs/25140/elebegm.pdf
footprint CAPPRM10.75-21X40-4 (Capacitor, Electrolytic, Radial, Solder Ring; Body 21 x 40 mm (Dia.xH typ); Pin Spacing 10.75 mm (typ))
simulation model CAP (Capacitor)
pins: 1, 2, 3, 4

## EGM03MG468E00B
designator C?
Aluminum Electrolytic Capacitor, Solder Ring Termination : 6800uF, 25V; PCB_Layout: Complies with Manufacturer's Recommendation.; DrillSize: Nominal, Rounded To The Nearest 0.1mm; Published: 19-Mar-2004; DatasheetDocument: 8-Apr-2002; PackageReference: CAPPRM10.75-21X40-4; Publisher: Altium Limited; ComponentLink1Description: Manufacturer Link; ComponentLink1URL: http://www.vishay.com/; ComponentLink2Description: Datasheet; ComponentLink2URL: http://www.vishay.com/docs/25140/elebegm.pdf
footprint CAPPRM10.75-21X40-4 (Capacitor, Electrolytic, Radial, Solder Ring; Body 21 x 40 mm (Dia.xH typ); Pin Spacing 10.75 mm (typ))
simulation model CAP (Capacitor)
pins: 1, 2, 3, 4

## EGM03MG510D00B
designator C?
Aluminum Electrolytic Capacitor, Solder Ring Termination : 10000uF, 16V; PCB_Layout: Complies with Manufacturer's Recommendation.; DrillSize: Nominal, Rounded To The Nearest 0.1mm; Published: 19-Mar-2004; DatasheetDocument: 8-Apr-2002; PackageReference: CAPPRM10.75-21X40-4; Publisher: Altium Limited; ComponentLink1Description: Manufacturer Link; ComponentLink1URL: http://www.vishay.com/; ComponentLink2Description: Datasheet; ComponentLink2URL: http://www.vishay.com/docs/25140/elebegm.pdf
footprint CAPPRM10.75-21X40-4 (Capacitor, Electrolytic, Radial, Solder Ring; Body 21 x 40 mm (Dia.xH typ); Pin Spacing 10.75 mm (typ))
simulation model CAP (Capacitor)
pins: 1, 2, 3, 4

## EGM03MG515C00B
designator C?
Aluminum Electrolytic Capacitor, Solder Ring Termination : 15000uF, 10V; PCB_Layout: Complies with Manufacturer's Recommendation.; DrillSize: Nominal, Rounded To The Nearest 0.1mm; Published: 19-Mar-2004; DatasheetDocument: 8-Apr-2002; PackageReference: CAPPRM10.75-21X40-4; Publisher: Altium Limited; ComponentLink1Description: Manufacturer Link; ComponentLink1URL: http://www.vishay.com/; ComponentLink2Description: Datasheet; ComponentLink2URL: http://www.vishay.com/docs/25140/elebegm.pdf
footprint CAPPRM10.75-21X40-4 (Capacitor, Electrolytic, Radial, Solder Ring; Body 21 x 40 mm (Dia.xH typ); Pin Spacing 10.75 mm (typ))
simulation model CAP (Capacitor)
pins: 1, 2, 3, 4

## EGM03MG522B00B
designator C?
Aluminum Electrolytic Capacitor, Solder Ring Termination : 22000uF, 6.3V; PCB_Layout: Complies with Manufacturer's Recommendation.; DrillSize: Nominal, Rounded To The Nearest 0.1mm; Published: 19-Mar-2004; DatasheetDocument: 8-Apr-2002; PackageReference: CAPPRM10.75-21X40-4; Publisher: Altium Limited; ComponentLink1Description: Manufacturer Link; ComponentLink1URL: http://www.vishay.com/; ComponentLink2Description: Datasheet; ComponentLink2URL: http://www.vishay.com/docs/25140/elebegm.pdf
footprint CAPPRM10.75-21X40-4 (Capacitor, Electrolytic, Radial, Solder Ring; Body 21 x 40 mm (Dia.xH typ); Pin Spacing 10.75 mm (typ))
simulation model CAP (Capacitor)
pins: 1, 2, 3, 4

## EGM03NG310Y00B
designator C?
Aluminum Electrolytic Capacitor, Solder Ring Termination : 100uF, 500V; PCB_Layout: Complies with Manufacturer's Recommendation.; DrillSize: Nominal, Rounded To The Nearest 0.1mm; Published: 19-Mar-2004; DatasheetDocument: 8-Apr-2002; PackageReference: CAPPRM12.75-25X40-4; Publisher: Altium Limited; ComponentLink1Description: Manufacturer Link; ComponentLink1URL: http://www.vishay.com/; ComponentLink2Description: Datasheet; ComponentLink2URL: http://www.vishay.com/docs/25140/elebegm.pdf
footprint CAPPRM12.75-25X40-4 (Capacitor, Electrolytic, Radial, Solder Ring; Body 25 x 40 mm (Dia.xH typ); Pin Spacing 12.75 mm (typ))
simulation model CAP (Capacitor)
pins: 1, 2, 3, 4

## EGM03NG315R00B
designator C?
Aluminum Electrolytic Capacitor, Solder Ring Termination : 150uF, 385V; PCB_Layout: Complies with Manufacturer's Recommendation.; DrillSize: Nominal, Rounded To The Nearest 0.1mm; Published: 19-Mar-2004; DatasheetDocument: 8-Apr-2002; PackageReference: CAPPRM12.75-25X40-4; Publisher: Altium Limited; ComponentLink1Description: Manufacturer Link; ComponentLink1URL: http://www.vishay.com/; ComponentLink2Description: Datasheet; ComponentLink2URL: http://www.vishay.com/docs/25140/elebegm.pdf
footprint CAPPRM12.75-25X40-4 (Capacitor, Electrolytic, Radial, Solder Ring; Body 25 x 40 mm (Dia.xH typ); Pin Spacing 12.75 mm (typ))
simulation model CAP (Capacitor)
pins: 1, 2, 3, 4

## EGM03NG315X00B
designator C?
Aluminum Electrolytic Capacitor, Solder Ring Termination : 150uF, 400V; PCB_Layout: Complies with Manufacturer's Recommendation.; DrillSize: Nominal, Rounded To The Nearest 0.1mm; Published: 19-Mar-2004; DatasheetDocument: 8-Apr-2002; PackageReference: CAPPRM12.75-25X40-4; Publisher: Altium Limited; ComponentLink1Description: Manufacturer Link; ComponentLink1URL: http://www.vishay.com/; ComponentLink2Description: Datasheet; ComponentLink2URL: http://www.vishay.com/docs/25140/elebegm.pdf
footprint CAPPRM12.75-25X40-4 (Capacitor, Electrolytic, Radial, Solder Ring; Body 25 x 40 mm (Dia.xH typ); Pin Spacing 12.75 mm (typ))
simulation model CAP (Capacitor)
pins: 1, 2, 3, 4

## EGM03NG322O00B
designator C?
Aluminum Electrolytic Capacitor, Solder Ring Termination : 220uF, 350V; PCB_Layout: Complies with Manufacturer's Recommendation.; DrillSize: Nominal, Rounded To The Nearest 0.1mm; Published: 19-Mar-2004; DatasheetDocument: 8-Apr-2002; PackageReference: CAPPRM12.75-25X40-4; Publisher: Altium Limited; ComponentLink1Description: Manufacturer Link; ComponentLink1URL: http://www.vishay.com/; ComponentLink2Description: Datasheet; ComponentLink2URL: http://www.vishay.com/docs/25140/elebegm.pdf
footprint CAPPRM12.75-25X40-4 (Capacitor, Electrolytic, Radial, Solder Ring; Body 25 x 40 mm (Dia.xH typ); Pin Spacing 12.75 mm (typ))
simulation model CAP (Capacitor)
pins: 1, 2, 3, 4

## EGM03NG333N00B
designator C?
Aluminum Electrolytic Capacitor, Solder Ring Termination : 330uF, 250V; PCB_Layout: Complies with Manufacturer's Recommendation.; DrillSize: Nominal, Rounded To The Nearest 0.1mm; Published: 19-Mar-2004; DatasheetDocument: 8-Apr-2002; PackageReference: CAPPRM12.75-25X40-4; Publisher: Altium Limited; ComponentLink1Description: Manufacturer Link; ComponentLink1URL: http://www.vishay.com/; ComponentLink2Description: Datasheet; ComponentLink2URL: http://www.vishay.com/docs/25140/elebegm.pdf
footprint CAPPRM12.75-25X40-4 (Capacitor, Electrolytic, Radial, Solder Ring; Body 25 x 40 mm (Dia.xH typ); Pin Spacing 12.75 mm (typ))
simulation model CAP (Capacitor)
pins: 1, 2, 3, 4

## EGM03NG347S00B
designator C?
Aluminum Electrolytic Capacitor, Solder Ring Termination : 470uF, 200V; PCB_Layout: Complies with Manufacturer's Recommendation.; DrillSize: Nominal, Rounded To The Nearest 0.1mm; Published: 19-Mar-2004; DatasheetDocument: 8-Apr-2002; PackageReference: CAPPRM12.75-25X40-4; Publisher: Altium Limited; ComponentLink1Description: Manufacturer Link; ComponentLink1URL: http://www.vishay.com/; ComponentLink2Description: Datasheet; ComponentLink2URL: http://www.vishay.com/docs/25140/elebegm.pdf
footprint CAPPRM12.75-25X40-4 (Capacitor, Electrolytic, Radial, Solder Ring; Body 25 x 40 mm (Dia.xH typ); Pin Spacing 12.75 mm (typ))
simulation model CAP (Capacitor)
pins: 1, 2, 3, 4

## EGM03NG368M00B
designator C?
Aluminum Electrolytic Capacitor, Solder Ring Termination : 680uF, 160V; PCB_Layout: Complies with Manufacturer's Recommendation.; DrillSize: Nominal, Rounded To The Nearest 0.1mm; Published: 19-Mar-2004; DatasheetDocument: 8-Apr-2002; PackageReference: CAPPRM12.75-25X40-4; Publisher: Altium Limited; ComponentLink1Description: Manufacturer Link; ComponentLink1URL: http://www.vishay.com/; ComponentLink2Description: Datasheet; ComponentLink2URL: http://www.vishay.com/docs/25140/elebegm.pdf
footprint CAPPRM12.75-25X40-4 (Capacitor, Electrolytic, Radial, Solder Ring; Body 25 x 40 mm (Dia.xH typ); Pin Spacing 12.75 mm (typ))
simulation model CAP (Capacitor)
pins: 1, 2, 3, 4

## EGM03NG415L00B
designator C?
Aluminum Electrolytic Capacitor, Solder Ring Termination : 1500uF, 100V; PCB_Layout: Complies with Manufacturer's Recommendation.; DrillSize: Nominal, Rounded To The Nearest 0.1mm; Published: 19-Mar-2004; DatasheetDocument: 8-Apr-2002; PackageReference: CAPPRM12.75-25X40-4; Publisher: Altium Limited; ComponentLink1Description: Manufacturer Link; ComponentLink1URL: http://www.vishay.com/; ComponentLink2Description: Datasheet; ComponentLink2URL: http://www.vishay.com/docs/25140/elebegm.pdf
footprint CAPPRM12.75-25X40-4 (Capacitor, Electrolytic, Radial, Solder Ring; Body 25 x 40 mm (Dia.xH typ); Pin Spacing 12.75 mm (typ))
simulation model CAP (Capacitor)
pins: 1, 2, 3, 4

## EGM03NG433J00B
designator C?
Aluminum Electrolytic Capacitor, Solder Ring Termination : 3300uF, 63V; PCB_Layout: Complies with Manufacturer's Recommendation.; DrillSize: Nominal, Rounded To The Nearest 0.1mm; Published: 19-Mar-2004; DatasheetDocument: 8-Apr-2002; PackageReference: CAPPRM12.75-25X40-4; Publisher: Altium Limited; ComponentLink1Description: Manufacturer Link; ComponentLink1URL: http://www.vishay.com/; ComponentLink2Description: Datasheet; ComponentLink2URL: http://www.vishay.com/docs/25140/elebegm.pdf
footprint CAPPRM12.75-25X40-4 (Capacitor, Electrolytic, Radial, Solder Ring; Body 25 x 40 mm (Dia.xH typ); Pin Spacing 12.75 mm (typ))
simulation model CAP (Capacitor)
pins: 1, 2, 3, 4

## EGM03NG447H00B
designator C?
Aluminum Electrolytic Capacitor, Solder Ring Termination : 4700uF, 50V; PCB_Layout: Complies with Manufacturer's Recommendation.; DrillSize: Nominal, Rounded To The Nearest 0.1mm; Published: 19-Mar-2004; DatasheetDocument: 8-Apr-2002; PackageReference: CAPPRM12.75-25X40-4; Publisher: Altium Limited; ComponentLink1Description: Manufacturer Link; ComponentLink1URL: http://www.vishay.com/; ComponentLink2Description: Datasheet; ComponentLink2URL: http://www.vishay.com/docs/25140/elebegm.pdf
footprint CAPPRM12.75-25X40-4 (Capacitor, Electrolytic, Radial, Solder Ring; Body 25 x 40 mm (Dia.xH typ); Pin Spacing 12.75 mm (typ))
simulation model CAP (Capacitor)
pins: 1, 2, 3, 4

## EGM03NG468G00B
designator C?
Aluminum Electrolytic Capacitor, Solder Ring Termination : 6800uF, 40V; PCB_Layout: Complies with Manufacturer's Recommendation.; DrillSize: Nominal, Rounded To The Nearest 0.1mm; Published: 19-Mar-2004; DatasheetDocument: 8-Apr-2002; PackageReference: CAPPRM12.75-25X40-4; Publisher: Altium Limited; ComponentLink1Description: Manufacturer Link; ComponentLink1URL: http://www.vishay.com/; ComponentLink2Description: Datasheet; ComponentLink2URL: http://www.vishay.com/docs/25140/elebegm.pdf
footprint CAPPRM12.75-25X40-4 (Capacitor, Electrolytic, Radial, Solder Ring; Body 25 x 40 mm (Dia.xH typ); Pin Spacing 12.75 mm (typ))
simulation model CAP (Capacitor)
pins: 1, 2, 3, 4

## EGM03NG510E00B
designator C?
Aluminum Electrolytic Capacitor, Solder Ring Termination : 10000uF, 25V; PCB_Layout: Complies with Manufacturer's Recommendation.; DrillSize: Nominal, Rounded To The Nearest 0.1mm; Published: 19-Mar-2004; DatasheetDocument: 8-Apr-2002; PackageReference: CAPPRM12.75-25X40-4; Publisher: Altium Limited; ComponentLink1Description: Manufacturer Link; ComponentLink1URL: http://www.vishay.com/; ComponentLink2Description: Datasheet; ComponentLink2URL: http://www.vishay.com/docs/25140/elebegm.pdf
footprint CAPPRM12.75-25X40-4 (Capacitor, Electrolytic, Radial, Solder Ring; Body 25 x 40 mm (Dia.xH typ); Pin Spacing 12.75 mm (typ))
simulation model CAP (Capacitor)
pins: 1, 2, 3, 4

## EGM03NG515D00B
designator C?
Aluminum Electrolytic Capacitor, Solder Ring Termination : 15000uF, 16V; PCB_Layout: Complies with Manufacturer's Recommendation.; DrillSize: Nominal, Rounded To The Nearest 0.1mm; Published: 19-Mar-2004; DatasheetDocument: 8-Apr-2002; PackageReference: CAPPRM12.75-25X40-4; Publisher: Altium Limited; ComponentLink1Description: Manufacturer Link; ComponentLink1URL: http://www.vishay.com/; ComponentLink2Description: Datasheet; ComponentLink2URL: http://www.vishay.com/docs/25140/elebegm.pdf
footprint CAPPRM12.75-25X40-4 (Capacitor, Electrolytic, Radial, Solder Ring; Body 25 x 40 mm (Dia.xH typ); Pin Spacing 12.75 mm (typ))
simulation model CAP (Capacitor)
pins: 1, 2, 3, 4

## EGM03NG522C00B
designator C?
Aluminum Electrolytic Capacitor, Solder Ring Termination : 22000uF, 10V; PCB_Layout: Complies with Manufacturer's Recommendation.; DrillSize: Nominal, Rounded To The Nearest 0.1mm; Published: 19-Mar-2004; DatasheetDocument: 8-Apr-2002; PackageReference: CAPPRM12.75-25X40-4; Publisher: Altium Limited; ComponentLink1Description: Manufacturer Link; ComponentLink1URL: http://www.vishay.com/; ComponentLink2Description: Datasheet; ComponentLink2URL: http://www.vishay.com/docs/25140/elebegm.pdf
footprint CAPPRM12.75-25X40-4 (Capacitor, Electrolytic, Radial, Solder Ring; Body 25 x 40 mm (Dia.xH typ); Pin Spacing 12.75 mm (typ))
simulation model CAP (Capacitor)
pins: 1, 2, 3, 4